# EAGLE library part TLW-107-06-G-D (library SAMTEC-Txx_By_element14_Batch_1)
LOW PROFILE HEADER, DOUBLE ROW, 14 way
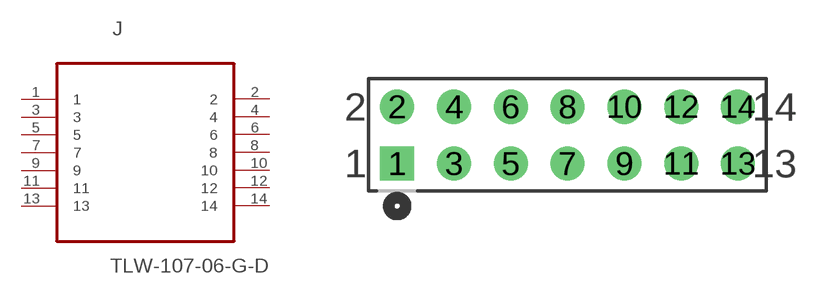
[diagram p152: symbol with the pads of SAMTEC_TLW-107-06-G-D; footprint SAMTEC_TLW-107-06-G-D]

Designator prefix J

## TLW-107-06-G-D (MPN: TLW-107-06-G-D; OC_FARNELL: -; OC_NEWARK: 12P0416; PACKAGE: LOW PROFILE HEADER; SUPPLIER: SAMTEC)  [SAMTEC_TLW-107-06-G-D]
1  1  pas
2  2  pas
3  3  pas
4  4  pas
5  5  pas
6  6  pas
7  7  pas
8  8  pas
9  9  pas
10  10  pas
11  11  pas
12  12  pas
13  13  pas
14  14  pas

## Footprint SAMTEC_TLW-107-06-G-D (pad centres in mm)
drill 1.016 square: 1 -15.24,-2.54
drill 1.016: 2 -15.24,0; 3 -12.7,-2.54; 4 -12.7,0; 5 -10.16,-2.54; 6 -10.16,0; 7 -7.62,-2.54; 8 -7.62,0; 9 -5.08,-2.54; 10 -5.08,0; 11 -2.54,-2.54; 12 -2.54,0; 13 0,-2.54; 14 0,0